# EAGLE library part MX25L3206E (library Memories)
MACRONIX CMOS SERIAL FLASH 32Mb - 4MB
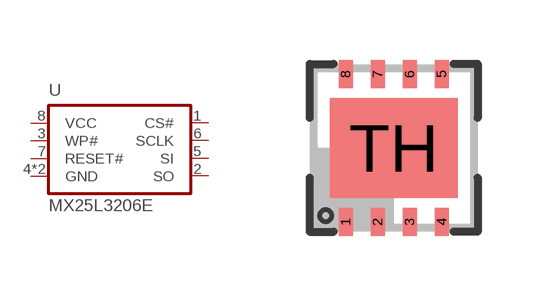
[diagram p0: symbol with the pads of L3206E; footprint L3206E]

Designator prefix -

## MX25L3206E  [L3206E]
1  CS#
2  SO
3  WP#
4  GND
5  SI
6  SCLK
7  RESET#
8  VCC
TH  GND

## Footprint L3206E (pad centres in mm)
smd 0.35 x 0.7: 1 -1.2,-1.85; 2 -0.4,-1.85; 3 0.4,-1.85; 4 1.2,-1.85; 5 1.2,1.85; 6 0.4,1.85; 7 -0.4,1.85; 8 -1.2,1.85
smd 3.2 x 2.5: TH 0,0